# Altium schematic symbol library W9751G6KB SDRAM.SchLib: 1 symbol
Pins are listed as number, name and electrical type; pins without a type are passive.

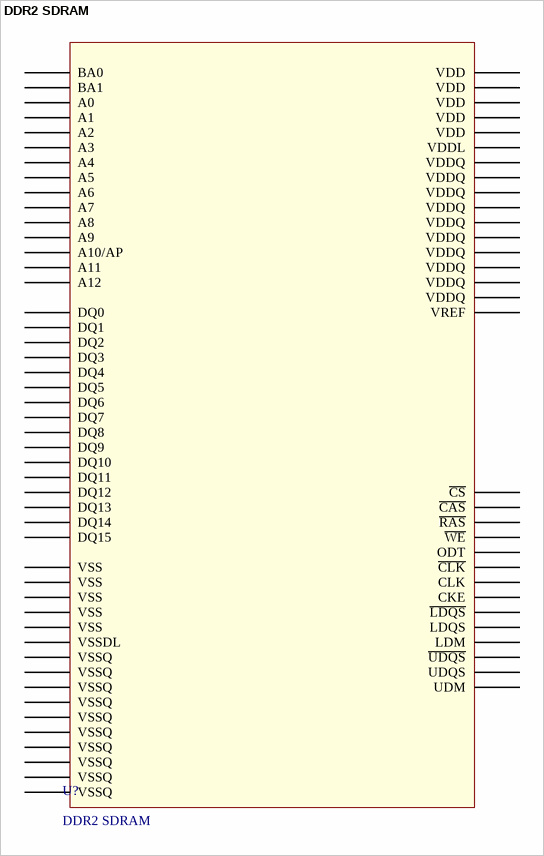
[diagram p0: symbol DDR2 SDRAM]

## DDR2 SDRAM
designator U?
Manufacturer Part No.: W9751G6KB-25; VDD: 1.8V; Memory: 512MB; Digi-Key Part No.: W9751G6KB-25-ND; ComponentLink1Description: Datasheet; ComponentLink1URL: http://www.winbond.com/resource-files/da00-w9751g6kbg1.pdf
footprint W9751G6KB (DDR2 SDRAM)
pins: A1 VDD, A3 VSS, A4 VSSQ, A5 ~{UDQS}, A6 VDDQ, B1 DQ14, B2 VSSQ, B3 UDM, B4 UDQS, B5 VSSQ, B6 DQ15, C1 VDDQ, C2 DQ9, C3 VDDQ, C4 VDDQ, C5 DQ8, C6 VDDQ, D1 DQ12, D2 VSSQ, D3 DQ11, D4 DQ10, D5 VSSQ, D6 DQ13, E1 VDD, E3 VSS, E4 VSSQ, E5 ~{LDQS}, E6 VDDQ, F1 DQ6, F2 VSSQ, F3 LDM, F4 LDQS, F5 VSSQ, F6 DQ7, G1 VDDQ, G2 DQ1, G3 VDDQ, G4 VDDQ, G5 DQ0, G6 VDDQ, H1 DQ4, H2 VSSQ, H3 DQ3, H4 DQ2, H5 VSSQ, H6 DQ5, J1 VDDL, J2 VREF, J3 VSS, J4 VSSDL, J5 CLK, J6 VDD, K2 CKE, K3 ~{WE}, K4 ~{RAS}, K5 ~{CLK}, K6 ODT, L2 BA0, L3 BA1, L4 ~{CAS}, L5 ~{CS}, M2 A10/AP, M3 A1, M4 A2, M5 A0, M6 VDD, N1 VSS, N2 A3, N3 A5, N4 A6, N5 A4, P2 A7, P3 A9, P4 A11, P5 A8, P6 VSS, R1 VDD, R2 A12